# EAGLE library part LTP5902 (library LTP5902c)
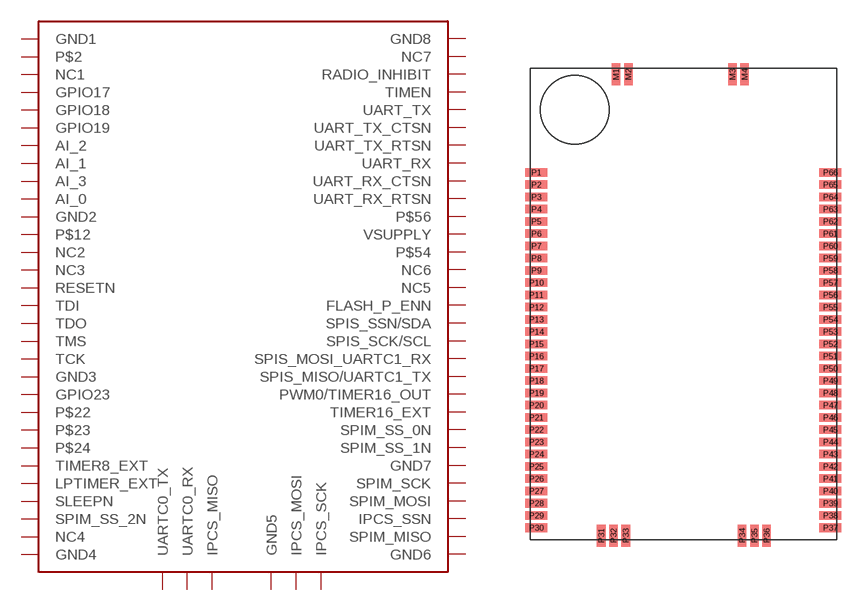
[diagram p0: symbol with the pads of LTP5902-MMCX; footprint LTP5902-MMCX]

Designator prefix U

## LTP5902  [LTP5902-MMCX]
P1  GND1
P2  P$2
P3  NC1
P4  GPIO17
P5  GPIO18
P6  GPIO19
P7  AI_2
P8  AI_1
P9  AI_3
P10  AI_0
P11  GND2
P12  P$12
P13  NC2
P14  NC3
P15  RESETN
P16  TDI
P17  TDO
P18  TMS
P19  TCK
P20  GND3
P21  GPIO23
P22  P$22
P23  P$23
P24  P$24
P25  TIMER8_EXT
P26  LPTIMER_EXT
P27  SLEEPN
P28  SPIM_SS_2N
P29  NC4
P30  GND4
P31  UARTC0_TX
P32  UARTC0_RX
P33  IPCS_MISO
P34  GND5
P35  IPCS_MOSI
P36  IPCS_SCK
P37  GND6
P38  SPIM_MISO
P39  IPCS_SSN
P40  SPIM_MOSI
P41  SPIM_SCK
P42  GND7
P43  SPIM_SS_1N
P44  SPIM_SS_0N
P45  TIMER16_EXT
P46  PWM0/TIMER16_OUT
P47  SPIS_MISO/UARTC1_TX
P48  SPIS_MOSI_UARTC1_RX
P49  SPIS_SCK/SCL
P50  SPIS_SSN/SDA
P51  FLASH_P_ENN
P52  NC5
P53  NC6
P54  P$54
P55  VSUPPLY
P56  P$56
P57  UART_RX_RTSN
P58  UART_RX_CTSN
P59  UART_RX
P60  UART_TX_RTSN
P61  UART_TX_CTSN
P62  UART_TX
P63  TIMEN
P64  RADIO_INHIBIT
P65  NC7
P66  GND8

## Footprint LTP5902-MMCX (pad centres in mm)
smd 0.7 x 1.8: M1 -5.4,18.6; M2 -4.4,18.6; M3 4.1,18.6; M4 5.1,18.6; P31 -6.607,-19.043; P32 -5.607,-19.043; P33 -4.607,-19.043; P34 4.893,-19.043; P35 5.893,-19.043; P36 6.893,-19.043
smd 1.8 x 0.7: P1 -11.9,10.6; P2 -11.9,9.6; P3 -11.9,8.6; P4 -11.9,7.6; P5 -11.9,6.6; P6 -11.9,5.6; P7 -11.9,4.6; P8 -11.9,3.6; P9 -11.9,2.6; P10 -11.9,1.6; P11 -11.9,0.6; P12 -11.9,-0.4; P13 -11.9,-1.4; P14 -11.9,-2.4; P15 -11.9,-3.4; P16 -11.9,-4.4; P17 -11.9,-5.4; P18 -11.9,-6.4; P19 -11.9,-7.4; P20 -11.9,-8.4; P21 -11.9,-9.4; P22 -11.9,-10.4; P23 -11.9,-11.4; P24 -11.9,-12.4; P25 -11.9,-13.4; P26 -11.9,-14.4; P27 -11.9,-15.4; P28 -11.9,-16.4; P29 -11.9,-17.4; P30 -11.9,-18.4; P37 12.1,-18.4; P38 12.1,-17.4; P39 12.1,-16.4; P40 12.1,-15.4; P41 12.1,-14.4; P42 12.1,-13.4; P43 12.1,-12.4; P44 12.1,-11.4; P45 12.1,-10.4; P46 12.1,-9.4; P47 12.1,-8.4; P48 12.1,-7.4; P49 12.1,-6.4; P50 12.1,-5.4; P51 12.1,-4.4; P52 12.1,-3.4; P53 12.1,-2.4; P54 12.1,-1.4; P55 12.1,-0.4; P56 12.1,0.6; P57 12.1,1.6; P58 12.1,2.6; P59 12.1,3.6; P60 12.1,4.6; P61 12.1,5.6; P62 12.1,6.6; P63 12.1,7.6; P64 12.1,8.6; P65 12.1,9.6; P66 12.1,10.6